# Altium footprint library TPSM82823SILR.PcbLib: 1 footprints
Each footprint in its own frame and in the unit in brackets; x right, y up, seen from the top. Pads: shape width x height; smd on the part's side, far side on the other; paste and mask are expansions set on the pad; w line width, h text height; cw(c..) or ccw(c..) is an arc to the next point about the centre after c.
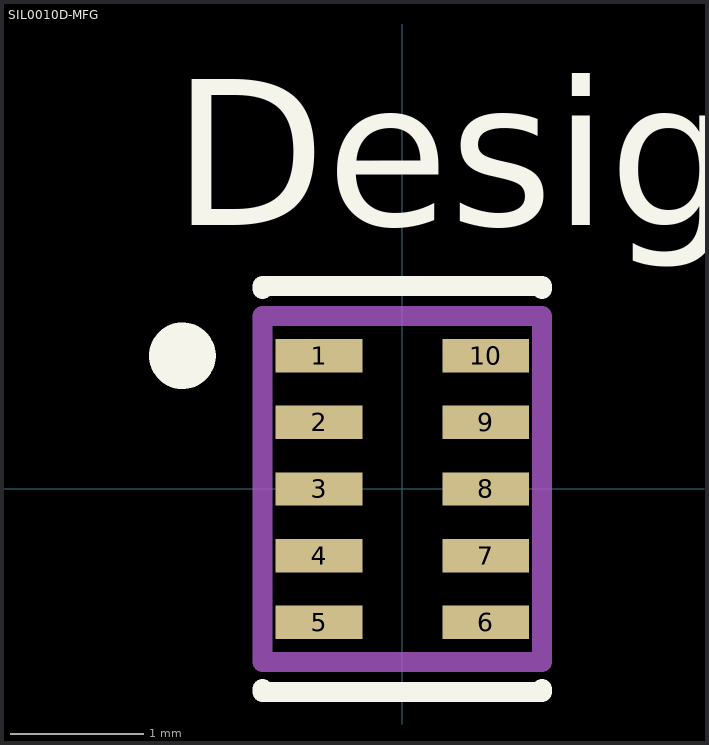
[diagram p0: the footprint, top view; thin cyan lines are the x and y axes]

## SIL0010D-MFG [mm]
pads (10):
  rect 0.65x0.25 smd paste+0 mask+0: 1(-0.625,1) 2(-0.625,0.5) 3(-0.625,0) 4(-0.625,-0.5) 5(-0.625,-1) 6(0.625,-1) 7(0.625,-0.5) 8(0.625,0) 9(0.625,0.5) 10(0.625,1)
Top Overlay:
  circle w0.25: c-1.65,1 r0.125
  lines w0.15: -1.05,-1.5 -1.05,-1.525 1.05,-1.525 1.05,-1.5 ; -1.05,1.5 -1.05,1.525 1.05,1.525 1.05,1.5
  text "Designator10" at -1.727,1.981 h1.27
Mechanical 13:
  lines w0.15: -1.05,-1.3 -1.05,1.3 1.05,1.3 1.05,-1.3 -1.05,-1.3